# Altium schematic symbol library GOSTCapacitor.SchLib: 2 symbols
Pins are listed as number, name and electrical type; pins without a type are passive.

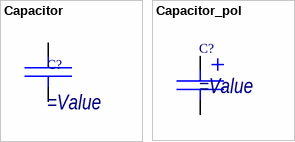
[diagram p0: symbols Capacitor to Capacitor_pol]

## Capacitor
designator C?
Конденсатор
pins: 1, 2

## Capacitor_pol
designator C?
Конденсатор полярный
pins: 1, 2